# Altium footprint library Wurth_Elektronik_Passive_rev16a.PCBLIB: 810 footprints (part 30 of 51)
Each footprint in its own frame and in the unit in brackets; x right, y up, seen from the top. Pads: shape width x height; smd on the part's side, far side on the other; paste and mask are expansions set on the pad; w line width, h text height; cw(c..) or ccw(c..) is an arc to the next point about the centre after c.
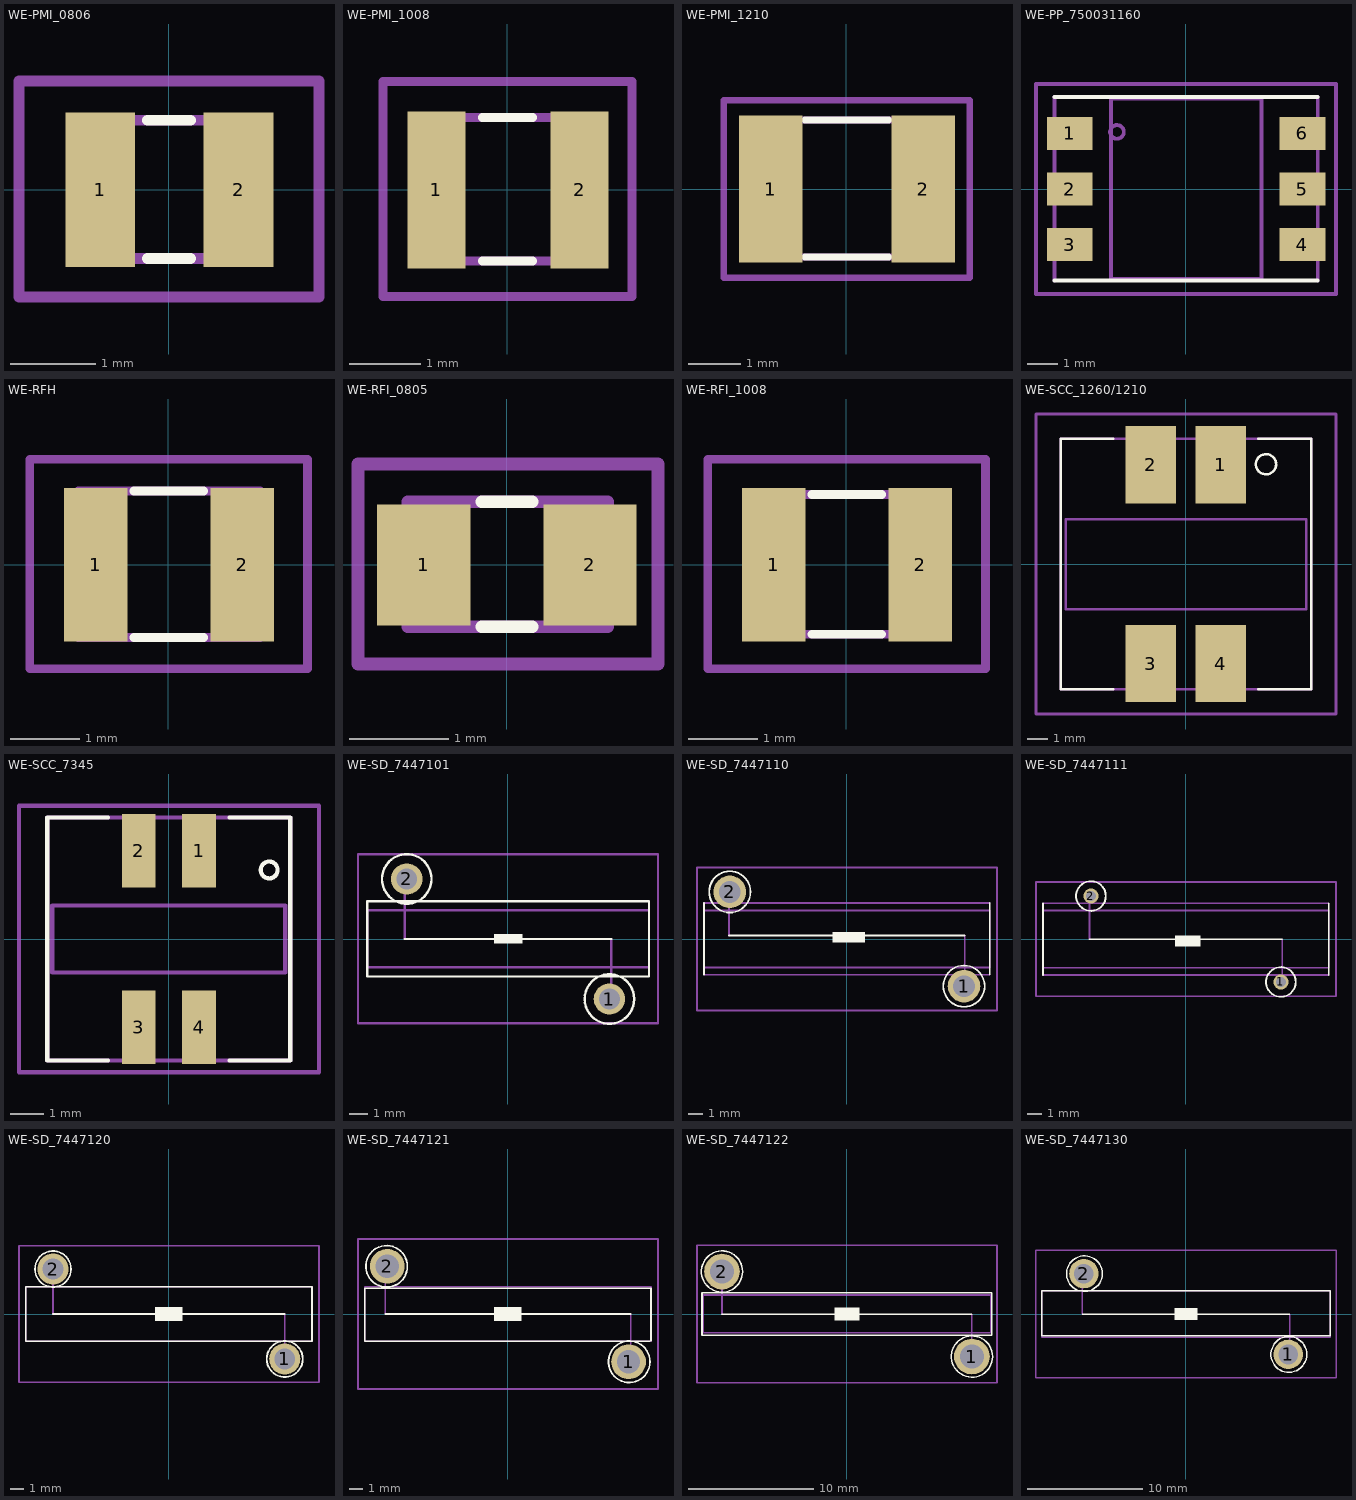
[diagram p29: the footprints below, top view; thin cyan lines are the x and y axes]

## WE-PMI_0806 [mil]
pads (2):
  rect 32x71 smd: 1(-31.5,0) 2(32,0)
Top Overlay:
  lines w5: -9.84,-31.5 10,-31.5 ; -9.84,32 10,32
Mechanical 2:
  text ">NAME" at -159.24,83 h77.5
Mechanical 4:
  text ">VALUE" at -159.24,-153 h77.5
Mechanical 16:
  lines w5: -39.37,-31.5 40,-31.5 40,32 -39.37,32 -39.37,-31.5
Mechanical 27:
  lines w5: -68.9,-49.21 -68.9,50 69,50 69,-49.21 -68.9,-49.21

## WE-PMI_1008 [mil]
pads (2):
  rect 32x87 smd: 1(-39.37,0) 2(40,0)
Top Overlay:
  lines w5: -13.78,-39.37 14,-39.37 ; -13.78,40 14,40
Mechanical 2:
  text ">NAME" at -159.24,83 h77.5
Mechanical 4:
  text ">VALUE" at -159.24,-153 h77.5
Mechanical 16:
  lines w5: -49.21,-39.37 50,-39.37 50,40 -49.21,40 -49.21,-39.37
Mechanical 27:
  lines w5: -68.9,-59.06 -68.9,60 69,60 69,-59.06 -68.9,-59.06

## WE-PMI_1210 [mil]
pads (2):
  rect 48x111 smd: 1(-57.09,0) 2(58,0)
Top Overlay:
  lines w5: -31.5,-51.18 32,-51.18 ; -31.5,52 32,52
Mechanical 2:
  text ">Name" at -98.43,103 h77.5
Mechanical 4:
  text ">Value" at -102.36,-133.86 h77.5
Mechanical 16:
  lines w5: -62.99,-51.18 63,-51.18 63,52 -62.99,52 -62.99,-51.18
Mechanical 27:
  lines w5: -92.52,-66.93 93,-66.93 93,67 -92.52,67 -92.52,-66.93

## WE-PP_750031160 [mil]
pads (6):
  rect 60x43 smd: 1(-152.56,73) 2(-152.56,0) 3(-152.56,-72.83) 4(153,-72.83) 5(153,0) 6(153,73)
Top Overlay:
  lines w5: -172.44,-120.08 173,-120.08 ; -172.44,121 173,121
Mechanical 2:
  text ">NAME" at -283.21,209 h77.5
Mechanical 4:
  text ">VALUE" at -283.21,-278.59 h77.5
Mechanical 10:
  lines w5: -98.43,-118.11 -98.43,119 99,119 99,-118.11 -98.43,-118.11
Mechanical 16:
  circle w5: c-90.55,75 r9
  lines w5: -172.44,-120.08 -172.44,121 ; 173,-120.08 173,121
Mechanical 27:
  lines w5: -196.85,-137.8 -196.85,138 197,138 197,-137.8 -196.85,-137.8

## WE-RFH [mil]
pads (2):
  rect 36x87 smd: 1(-41.34,0) 2(42,0)
Top Overlay:
  lines w5: -19.68,-41.34 20,-41.34 ; -19.68,42 20,42
Mechanical 2:
  text ">NAME" at -90.55,-86.61 h24.8
Mechanical 4:
  text ">VALUE" at -90.55,70 h18.6
Mechanical 16:
  lines w5: -51.18,-41.34 52,-41.34 52,42 -51.18,42 -51.18,-41.34
Mechanical 27:
  lines w5: -78.74,-59.06 -78.74,60 79,60 79,-59.06 -78.74,-59.06

## WE-RFI_0805 [mil]
pads (2):
  rect 37x48 smd: 1(-32.97,0) 2(33,0)
Top Overlay:
  lines w5: -9.84,-24.61 10,-24.61 ; -9.84,25 10,25
Mechanical 2:
  text ">NAME" at -75,50 h18.6
Mechanical 4:
  text ">VALUE" at -75,-60.63 h18.6
Mechanical 16:
  lines w5: -39.37,-24.61 40,-24.61 40,25 -39.37,25 -39.37,-24.61
Mechanical 27:
  lines w5: -59.06,-39.37 -59.06,40 60,40 60,-39.37 -59.06,-39.37

## WE-RFI_1008 [mil]
pads (2):
  rect 36x87 smd: 1(-41.34,0) 2(42,0)
Top Overlay:
  lines w5: -19.68,-39.37 20,-39.37 ; -19.68,40 20,40
Mechanical 2:
  text ">NAME" at -84.65,-74.8 h18.6
Mechanical 4:
  text ">VALUE" at -84.65,65 h18.6
Mechanical 16:
  lines w5: -49.21,-39.37 50,-39.37 50,40 -49.21,40 -49.21,-39.37
Mechanical 27:
  lines w5: -78.74,-59.06 -78.74,60 79,60 79,-59.06 -78.74,-59.06

## WE-SCC_1260/1210 [mil]
pads (4):
  rect 99x152 smd: 1(69,196) 2(-68.9,196) 3(-68.9,-195.87) 4(69,-195.87)
Top Overlay:
  circle w5: c158,197 r20
  lines w5: -142.72,-246.06 -246.06,-246.06 -246.06,247 -142.72,247 ; 143,-246.06 247,-246.06 247,247 143,247
Mechanical 2:
  text ">NAME" at -248.94,377 h77.5
Mechanical 4:
  text ">VALUE" at -248.94,-446.91 h77.5
Mechanical 10:
  lines w5: -236.22,-88.58 -236.22,89 237,89 237,-88.58 -236.22,-88.58
Mechanical 16:
  lines w5: -246.06,-246.06 -246.06,247 247,247 247,-246.06 -246.06,-246.06
  text "1" at 138,99 h77.5
Mechanical 27:
  lines w5: -295.28,-295.28 -295.28,296 296,296 296,-295.28 -295.28,-295.28

## WE-SCC_7345 [mil]
pads (4):
  rect 40x87 smd: 1(36,105) 2(-35.43,105) 3(-35.43,-104.33) 4(36,-104.33)
Top Overlay:
  circle w5: c119,82 r10
  lines w5: -71.85,-143.7 -143.7,-143.7 -143.7,144 -71.85,144 ; 72,-143.7 144,-143.7 144,144 72,144
Mechanical 2:
  text ">NAME" at -190.16,-151.08 h37.2
Mechanical 4:
  text ">VALUE" at 221,-147.15 h37.2
Mechanical 10:
  lines w5: -137.8,-39.37 -137.8,40 138,40 138,-39.37 -137.8,-39.37
Mechanical 16:
  lines w5: -143.7,-143.7 144,-143.7 144,144 -143.7,144 -143.7,-143.7
Mechanical 27:
  lines w5: -177.17,-157.48 -177.17,158 178,158 178,-157.48 -177.17,-157.48

## WE-SD_7447101 [mil]
pads (2):
  round 66 hole 44: 1(213,-125.98) 2(-212.6,126)
Top Overlay:
  circle w5: c213,-125.98 r52
  circle w5: c-212.6,126 r52
  region: 30,10 -29.53,10 -29.53,-9.84 30,-9.84
  lines w5: -216.54,0 217,0 ; -295.28,-78.74 296,-78.74 296,79 -295.28,79 -295.28,-78.74
Mechanical 2:
  text ">NAME" at -354.33,229 h77.5
Mechanical 4:
  text ">VALUE" at -325,-278.74 h77.5
Mechanical 10:
  lines w5: -295.28,-59.06 -295.28,60 296,60 296,-59.06 -295.28,-59.06
Mechanical 16:
  lines w5: -216.54,0 -216.54,109 ; 217,-108.27 217,0
Mechanical 27:
  lines w5: -314.96,-177.17 -314.96,178 315,178 315,-177.17 -314.96,-177.17

## WE-SD_7447110 [mil]
pads (2):
  round 90 hole 60: 1(323,-129.92) 2(-322.83,130)
Top Overlay:
  circle w5: c323,-129.92 r57
  circle w5: c-322.83,130 r57
  region: 50,20 -39.37,20 -39.37,-9.84 50,-9.84
  lines w5: -393.7,-98.43 -393.7,99 ; -324.8,10 325,10 ; 394,-98.43 394,99
Mechanical 2:
  text ">NAME" at -406.5,219 h77.5
Mechanical 4:
  text ">VALUE" at -394.69,-248.43 h77.5
Mechanical 10:
  lines w5: -393.7,-78.74 -393.7,79 394,79 394,-78.74 -393.7,-78.74
Mechanical 16:
  lines w5: -393.7,-98.43 394,-98.43 ; -393.7,99 394,99 ; -324.8,10 -324.8,128 ; 325,-127.95 325,10
Mechanical 27:
  lines w5: -413.39,-196.85 414,-196.85 414,197 -413.39,197 -413.39,-196.85

## WE-SD_7447111 [mil]
pads (2):
  round 42 hole 28: 1(262,-118.11) 2(-261.81,119)
Top Overlay:
  circle w5: c262,-118.11 r41
  circle w5: c-261.81,119 r41
  region: 40,10 -29.53,10 -29.53,-19.68 40,-19.69
  lines w5: -393.7,-98.43 -393.7,99 ; -265.75,0 266,0 ; 394,-98.43 394,99
Mechanical 2:
  text ">NAME" at -386.81,179 h77.5
Mechanical 4:
  text ">VALUE" at -394.69,-228.74 h77.5
Mechanical 10:
  lines w5: -393.7,-78.74 394,-78.74 394,79 -393.7,79 -393.7,-78.74
Mechanical 16:
  lines w5: -393.7,-98.43 394,-98.43 ; -393.7,99 394,99 ; -265.75,0 -265.75,109 ; 266,-108.27 266,0
Mechanical 27:
  lines w5: -413.39,-157.48 414,-157.48 414,158 -413.39,158 -413.39,-157.48

## WE-SD_7447120 [mil]
pads (2):
  round 90 hole 60: 1(335,-129.92) 2(-334.65,130)
Top Overlay:
  circle w5: c335,-129.92 r52
  circle w5: c-334.65,130 r52
  region: 40,20 -39.37,20 -39.37,-19.68 40,-19.69
  lines w5: -334.65,0 335,0 ; -413.39,-78.74 -413.39,79 414,79 414,-78.74 -413.39,-78.74
Mechanical 2:
  text ">NAME" at -406.5,199 h77.5
Mechanical 4:
  text ">VALUE" at -389.37,-248.43 h77.5
Mechanical 10:
  lines w5: -413.39,-78.74 414,-78.74 414,79 -413.39,79 -413.39,-78.74
Mechanical 16:
  lines w5: -334.65,0 -334.65,138 ; 335,-118.11 335,0
Mechanical 27:
  lines w5: -433.07,-196.85 434,-196.85 434,197 -433.07,197 -433.07,-196.85

## WE-SD_7447121 [mil]
pads (2):
  round 100.5 hole 67: 1(349,-137.8) 2(-348.43,138)
Top Overlay:
  circle w5: c351,-137.8 r60
  circle w5: c-350.39,138 r60
  region: 40,20 -39.37,20 -39.37,-19.68 40,-19.69
  lines w5: -354.33,0 355,0 ; 410,-78.74 -413.39,-78.74 -413.39,75 414,75 414,-76.77
Mechanical 2:
  text ">NAME" at -411.02,219 h77.5
Mechanical 4:
  text ">VALUE" at -409.06,-268.11 h77.5
Mechanical 10:
  lines w5: -413.39,-78.74 414,-78.74 414,79 -413.39,79 -413.39,-78.74
Mechanical 16:
  lines w5: -354.33,0 -354.33,138 ; 355,-137.8 355,0
Mechanical 27:
  lines w5: -433.07,-216.54 434,-216.54 434,217 -433.07,217 -433.07,-216.54

## WE-SD_7447122 [mil]
pads (2):
  round 112.5 hole 75: 1(394,-133.86) 2(-393.7,134)
Top Overlay:
  circle w5: c394,-133.86 r65
  circle w5: c-393.7,134 r65
  region: 40,20 -39.37,20 -39.37,-19.68 40,-19.69
  lines w5: -393.7,0 394,0 ; -456.69,-66.93 -456.69,67 457,67 457,-66.93 -456.69,-66.93
Mechanical 2:
  text ">NAME" at -474.61,219 h77.5
Mechanical 4:
  text ">VALUE" at -444.69,-268.11 h77.5
Mechanical 10:
  lines w5: -452.76,-59.06 453,-59.06 453,60 -452.76,60 -452.76,-59.06
Mechanical 16:
  lines w5: -393.7,0 -393.7,138 ; 394,-137.8 394,0
Mechanical 27:
  lines w5: -472.44,-216.54 473,-216.54 473,217 -472.44,217 -472.44,-216.54

## WE-SD_7447130 [mil]
pads (2):
  round 100.5 hole 67: 1(349,-137.8) 2(-348.43,138)
Top Overlay:
  circle w5: c351,-137.8 r61
  circle w5: c-346.46,138 r61
  region: 40,20 -39.37,20 -39.37,-19.68 40,-19.69
  lines w5: -354.33,0 355,0 ; -492.13,-74.8 -492.13,79 493,79 493,-74.8 -492.13,-74.8
Mechanical 2:
  text ">NAME" at -503.35,219 h77.5
Mechanical 4:
  text ">VALUE" at -494.69,-268.11 h77.5
Mechanical 10:
  lines w5: -492.13,-78.74 493,-78.74 493,79 -492.13,79 -492.13,-78.74
Mechanical 16:
  lines w5: -354.33,0 -354.33,138 ; 355,-137.8 355,0
Mechanical 27:
  lines w5: -511.81,-216.54 512,-216.54 512,217 -511.81,217 -511.81,-216.54